# Altium schematic symbol library PAY.SchLib: 21 symbols
Pins are listed as number, name and electrical type; pins without a type are passive.

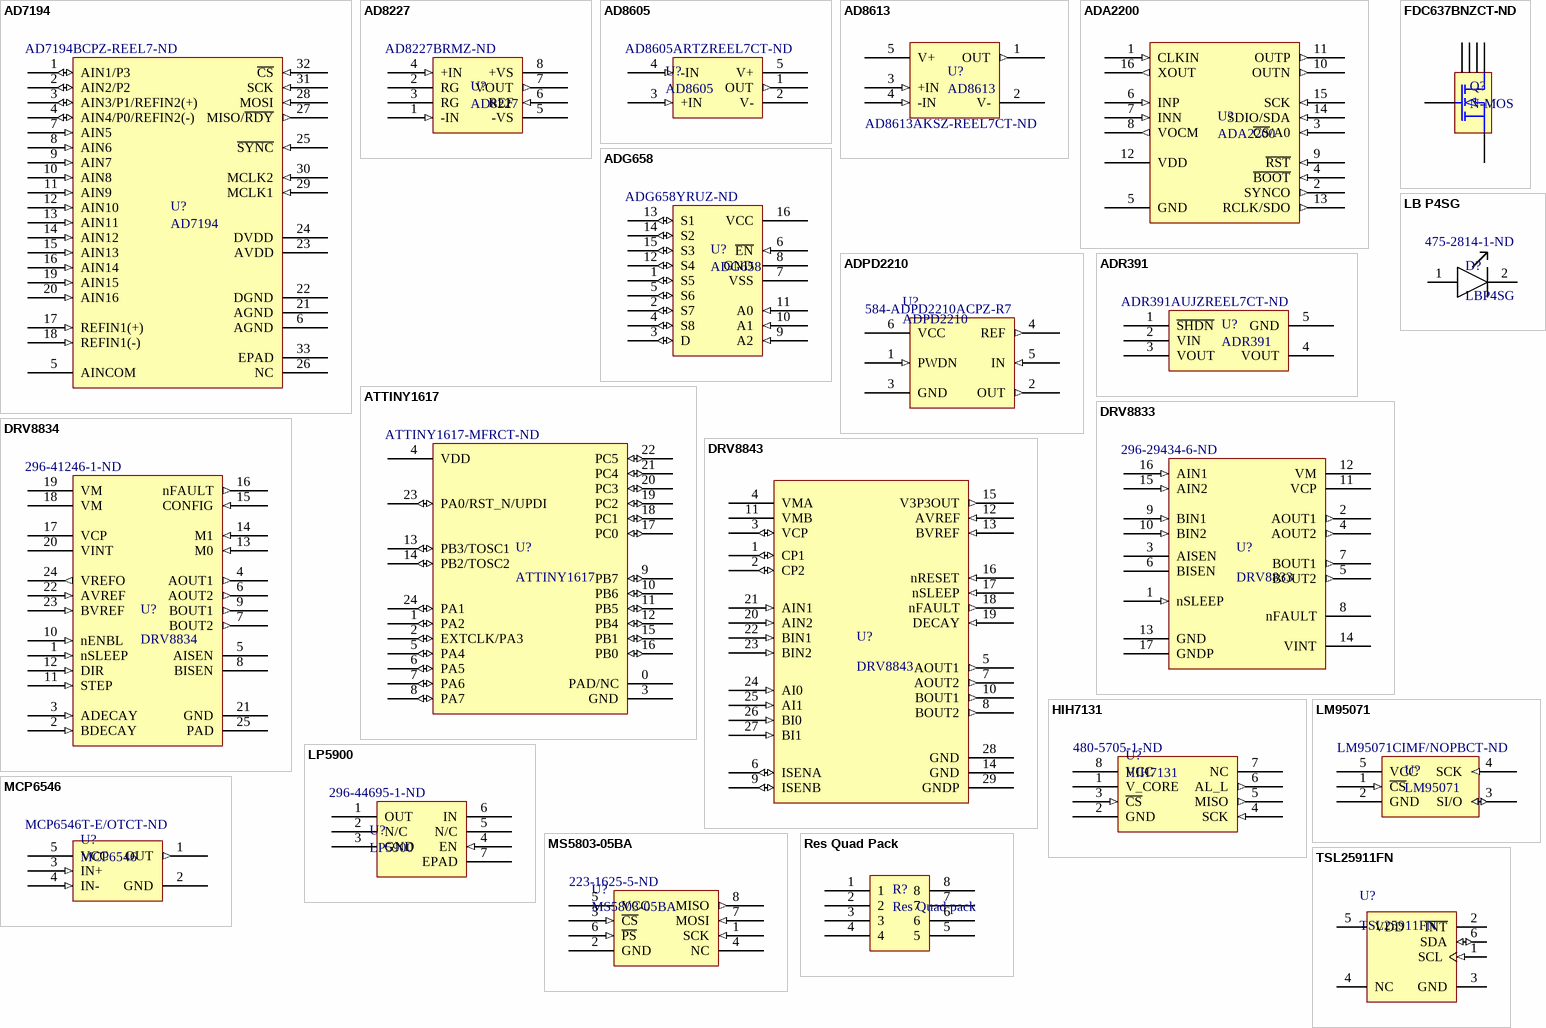
[diagram p0: symbols AD7194 to TSL25911FN]

## AD7194
designator U?  Supplier Part Number 1: AD7194BCPZ-REEL7-ND
24-bit sigma-delta ADC; Supplier 1: Digi-Key
footprint QFN50P500X500X100-33 (QFN + Pitch P + Body With X Body Length X Height - #Pins)
pins: 1 AIN1/P3 (io), 2 AIN2/P2 (io), 3 AIN3/P1/REFIN2(+) (io), 4 AIN4/P0/REFIN2(-) (io), 5 AINCOM (power), 6 AGND (power), 7 AIN5 (in), 8 AIN6 (in), 9 AIN7 (in), 10 AIN8 (in), 11 AIN9 (in), 12 AIN10 (in), 13 AIN11 (in), 14 AIN12 (in), 15 AIN13 (in), 16 AIN14 (in), 17 REFIN1(+) (in), 18 REFIN1(-) (in), 19 AIN15 (in), 20 AIN16 (in), 21 AGND (power), 22 DGND (power), 23 AVDD (power), 24 DVDD (power), 25 ~{SYNC} (in), 26 NC, 27 MISO/~{RDY} (out), 28 MOSI (in), 29 MCLK1 (in), 30 MCLK2 (in), 31 SCK (in), 32 ~{CS} (in), 33 EPAD

## AD8227
designator U?  Supplier Part Number 1: AD8227BRMZ-ND
Rail-to-rail instrumentation amplifier. Can operate on single supply.; Supplier 1: Digi-Key
footprint SOP65P300X125-8N (SOP + Pitch P + Lead Span Nominal X Height - #Pins)
pins: 1 -IN (in), 2 RG, 3 RG, 4 +IN (in), 5 -VS (power), 6 REF (in), 7 VOUT (out), 8 +VS (power)

## AD8605
designator U?  Supplier Part Number 1: AD8605ARTZREEL7CT-ND
Low noise, precision rail-to-rail op-amp.; Supplier 1: Digi-Key
footprint SOT95P290X160-5N (SOT + Pitch P + Nominal Lead Length X Height - #Pins)
pins: 1 OUT (out), 2 V- (power), 3 +IN (in), 4 -IN (in), 5 V+ (power)

## AD8613
designator U?  Supplier Part Number 1: AD8613AKSZ-REEL7CT-ND
Low power, low noise rail-to-rail op-amp.; Supplier 1: Digi-Key
footprint SOP65P200X125-5N (SOP + Pitch P + Lead Span Nominal X Height - #Pins)
pins: 1 OUT (out), 2 V- (power), 3 +IN (in), 4 -IN (in), 5 V+ (power)

## ADA2200
designator U?
Synchronous demodulator and configurable analog filter.
footprint SOP65P640X120-16N (SOP + Pitch P + Lead Span Nominal X Height - #Pins)
pins: 1 CLKIN (in), 2 SYNCO (out), 3 ~{CS}/A0 (in), 4 ~{BOOT} (in), 5 GND (power), 6 INP (in), 7 INN (in), 8 VOCM (out), 9 ~{RST} (in), 10 OUTN (out), 11 OUTP (out), 12 VDD (power), 13 RCLK/SDO (out), 14 SDIO/SDA (in), 15 SCK (in), 16 XOUT (out)

## ADG658
designator U?  Supplier Part Number 1: ADG658YRUZ-ND
Eight channel analog multiplexer.; Supplier 1: Digi-Key
footprint SOP65P640X120-16N (SOP + Pitch P + Lead Span Nominal X Height - #Pins)
pins: 1 S5 (io), 2 S7 (io), 3 D (io), 4 S8 (io), 5 S6 (io), 6 ~{EN} (in), 7 VSS (power), 8 GND (power), 9 A2 (in), 10 A1 (in), 11 A0 (in), 12 S4 (io), 13 S1 (io), 14 S2 (io), 15 S3 (io), 16 VCC (power)

## ADPD2210
designator U?  Supplier Part Number 1: 584-ADPD2210ACPZ-R7
Ultralow noise current amplifier for photodiodes.; Supplier 1: Mouser
footprint LFCSP65P200X200-6N (Footprint for ADPD2210 current amplifier)
pins: 1 PWDN (in), 2 OUT (out), 3 GND (power), 4 REF (out), 5 IN (in), 6 VCC (power)

## ADR391
designator U?  Supplier Part Number 1: ADR391AUJZREEL7CT-ND
2.5V reference voltage.; Supplier 1: Digi-Key
footprint SOT95P290X160-5N (SOT + Pitch P + Nominal Lead Length X Height - #Pins)
pins: 1 ~{SHDN}, 2 VIN, 3 VOUT, 4 VOUT, 5 GND

## ATTINY1617
designator U?  Supplier Part Number 1: ATTINY1617-MFRCT-ND
Supplier 1: Digi-Key
pins: 0 PAD/NC, 1 PA2 (io), 2 EXTCLK/PA3 (io), 3 GND (power), 4 VDD (power), 5 PA4 (io), 6 PA5 (io), 7 PA6 (io), 8 PA7 (io), 9 PB7 (io), 10 PB6 (io), 11 PB5 (io), 12 PB4 (io), 13 PB3/TOSC1 (io), 14 PB2/TOSC2 (io), 15 PB1 (io), 16 PB0 (io), 17 PC0 (io), 18 PC1 (io), 19 PC2 (io), 20 PC3 (io), 21 PC4 (io), 22 PC5 (io), 23 PA0/RST_N/UPDI (io), 24 PA1 (io)

## DRV8833
designator U?  Supplier Part Number 1: 296-29434-6-ND
Simple Dual H-bridge motor driver (with 2 NMOFETS). Supply voltage range 2.7V~10.8V, output current up to 2A per H-bridge (coil); Supplier 1: Digi-Key
footprint SOP65P640X120-17N (Standard SOP package with PowerPAD)
pins: 1 nSLEEP (in), 2 AOUT1 (out), 3 AISEN, 4 AOUT2 (out), 5 BOUT2 (out), 6 BISEN, 7 BOUT1 (out), 8 nFAULT, 9 BIN1 (in), 10 BIN2 (in), 11 VCP (power), 12 VM (power), 13 GND (power), 14 VINT (power), 15 AIN2 (in), 16 AIN1 (in), 17 GNDP (power)

## DRV8834
designator U?  Supplier Part Number 1: 296-41246-1-ND
Dual-bridge stepper or dc motor driver. 1.5A per coil with 2.5-10.8 V load supply.; Supplier 1: Digi-Key; ComponentLink1Description: Datasheet; ComponentLink1URL: http://www.ti.com/lit/ds/symlink/drv8834.pdf
footprint SOP65P640X120-25N
pins: 1 nSLEEP (in), 2 BDECAY (in), 3 ADECAY (in), 4 AOUT1 (out), 5 AISEN, 6 AOUT2 (out), 7 BOUT2 (out), 8 BISEN, 9 BOUT1 (out), 10 nENBL (in), 11 STEP (in), 12 DIR (in), 13 M0 (in), 14 M1 (in), 15 CONFIG (in), 16 nFAULT (out), 17 VCP (power), 18 VM (power), 19 VM (power), 20 VINT (power), 21 GND (power), 22 AVREF (in), 23 BVREF (in), 24 VREFO (out), 25 PAD (power)

## DRV8843
designator U?
Dual H-Bridge Driver, accept input voltages from 8.2V ~ 45V, with two-bit current control
footprint SOP65P640X110-29N (SOP+Pitch P+Lead Span Nominal X Height - #Pins)
pins: 1 CP1 (io), 2 CP2 (io), 3 VCP (io), 4 VMA (power), 5 AOUT1 (out), 6 ISENA (io), 7 AOUT2 (out), 8 BOUT2 (out), 9 ISENB (io), 10 BOUT1 (out), 11 VMB (power), 12 AVREF (in), 13 BVREF (in), 14 GND (power), 15 V3P3OUT (out), 16 nRESET (in), 17 nSLEEP (in), 18 nFAULT (out), 19 DECAY (in), 20 AIN2 (in), 21 AIN1 (in), 22 BIN1 (in), 23 BIN2 (in), 24 AI0 (in), 25 AI1 (in), 26 BI0 (in), 27 BI1 (in), 28 GND (power), 29 GNDP (power)

## FDC637BNZCT-ND
designator Q?, comment N-MOS
20V 6.2A, N-MOS, low gate on voltage; Supplier: Digi-Key; Supplier Part Number: FDC637BNZCT-ND
footprint SOT95P280X145-6N (SOT + Pitch P + Nominal Lead Length X Height - #Pins)
pins: 1 D, 2 D, 3 G, 4 S, 5 D, 6 D

## HIH7131
designator U?  Supplier Part Number 1: 480-5705-1-ND
Digital humidity/temperature sensors. +/- 3% RH, 0-100%, SPI output. Model version with filter and condensation resistant.; Supplier 1: Digi-Key
footprint SOIC127P500X600-8N
pins: 1 V_CORE (power), 2 GND (power), 3 ~{CS} (in), 4 SCK (in), 5 MISO (out), 6 AL_L (out), 7 NC, 8 VCC (power)

## LB P4SG
designator D?, comment LBP4SG  Supplier Part Number 1: 475-2814-1-ND
LED BLUE CLEAR SMD BOTTOM ENTRY; Supplier 1: Digi-Key
footprint LB P4SG (Footprint for a reverse-mount Osram LED)
pins: 1 Anode, 2 Cathode

## LM95071
designator U?  Supplier Part Number 1: LM95071CIMF/NOPBCT-ND
13 bit plus sign digital temperature sensor. Nominal +/- 1 C accuracy from 0-70 C.; Supplier 1: Digi-Key
footprint SOT95P290X160-5N (SOT + Pitch P + Nominal Lead Length X Height - #Pins)
pins: 1 ~{CS} (in), 2 GND (power), 3 SI/O (io), 4 SCK (in), 5 VCC (power)

## LP5900
designator U?  Supplier Part Number 1: 296-44695-1-ND
Low noise 3V low dropout regulator for analog and RF applications.; Supplier 1: Digi-Key
footprint DFN220X250X80-7 (DFN + Body Width X Body Length X Height - #Pins)
pins: 1 OUT (power), 2 N/C, 3 GND (power), 4 EN (in), 5 N/C, 6 IN (power), 7 EPAD

## MCP6546
designator U?  Supplier Part Number 1: MCP6546T-E/OTCT-ND
Open-drain output sub-microamp comparator.; Supplier 1: Digi-Key
footprint SOT95P290X160-5N (SOT + Pitch P + Nominal Lead Length X Height - #Pins)
pins: 1 OUT (out), 2 GND (power), 3 IN+ (in), 4 IN- (in), 5 VCC (power)

## MS5803-05BA
designator U?  Supplier Part Number 1: 223-1625-5-ND
Digital 24-bit pressure sensor with SPI output. Operating range from 0-5bar, includes onboard temperature sensor and hermetic seal.; Supplier 1: Digi-Key
footprint MS5803_125P640x620-8N (Footprint for the MS5803 family of pressure sensors)
pins: 1 SCK (in), 2 GND (power), 3 ~{CS} (in), 4 NC, 5 VCC (power), 6 ~{PS} (in) "Active-low for SPI", 7 MOSI (in), 8 MISO (out)

## Res Quad Pack
designator R?, comment Res Quad pack
Quad pack resistor
footprint RESCAV80P320X150-8N (Concave terminal quad pack resistor.)
pins: 1, 2, 3, 4, 5, 6, 7, 8

## TSL25911FN
designator U?
Light-to-Digital Converter with I2C Interface, 2.7 to 3.6 V, -30 to 70 degC, FN-6, Pb-Free, Reel; Manufacturer: AMS; Supply Voltage (V): 2.7 - 3.6; Maximum Lux: 88K; Interface: I2C - Vdd; Programmable: Gain, Integration Time, Interrupt; ComponentLink1Description: Manufacturer URL; ComponentLink2Description: Datasheet; Mounting Technology: Surface Mount; ComponentLink1URL: www.ams.com; PackageVersion: TAOS059Q, 11/2009; PartNumber: TSL25911FN; PackageReference: FN-6; PackageDescription: 6-Pin Dual Flat No-Lead, 2.4 x 2 mm Body, 0.65 mm Pitch; ComponentLink2URL: http://www.ams.com/eng/content/download/389383/1251117/221235
footprint AMS-FN-6-2400X2000DE_V (SON, 6-Leads, Body 2.4x2mm, Pitch 0.65mm)
pins: 1 SCL (in) "I2C serial clock input terminal", 2 ~{INT} (oc) "Interrupt - open drain output (active low).", 3 GND (power) "Power supply ground. All voltages are referenced to GND.", 4 NC "No connect - do not connect", 5 VDD (power) "Supply voltage", 6 SDA (io) "I2C serial data I/O terminal"